# Altium footprint library 管子.PcbLib: 24 footprints (part 2 of 2)
Each footprint in its own frame and in the unit in brackets; x right, y up, seen from the top. Pads: shape width x height; smd on the part's side, far side on the other; paste and mask are expansions set on the pad; w line width, h text height; cw(c..) or ccw(c..) is an arc to the next point about the centre after c.
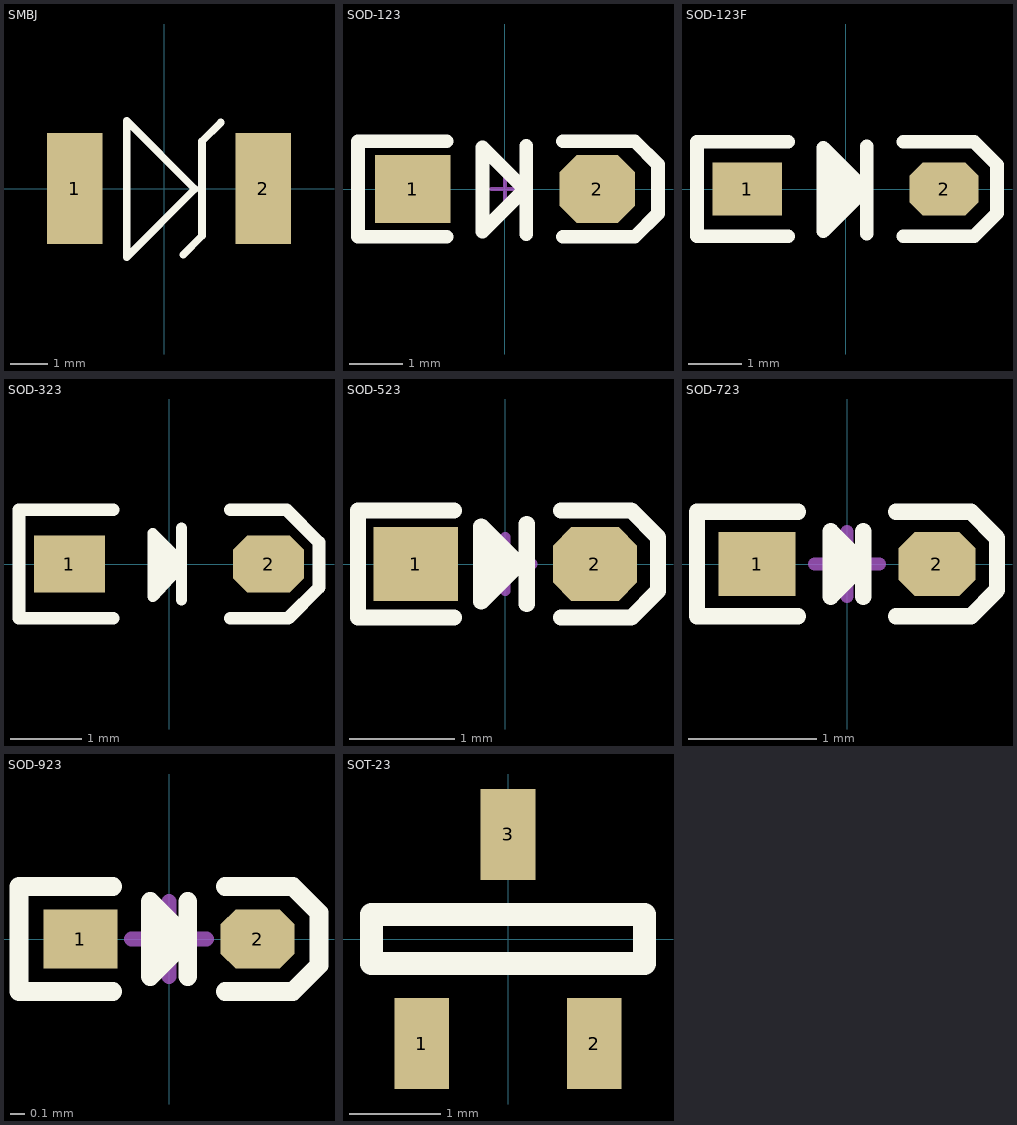
[diagram p1: the footprints below, top view; thin cyan lines are the x and y axes]

## SMBJ [mm]
pads (2):
  rect 1.5x3 smd: 1(-2.413,0) 2(2.667,0)
Top Overlay:
  lines w0.203: 0.508,-1.778 1.016,-1.27 1.016,1.27 1.524,1.778 ; -1.016,-1.854 0.826,-0.013 -1.016,1.829 -1.016,-1.854

## SOD-123 [mil] "2.7x1.6X1.1mm（长宽高，不包括引脚）"
pads (2):
  rect 55x50 smd: 1(-67.5,0)
  oct 55x50 smd: 2(67.5,0)
Top Overlay:
  lines w10: -42.5,-35 -107.5,-35 -107.5,35 -42.5,35 ; 14,-0.8 -16.4,-31.2 -16.4,30.5 15.6,-1.5 ; 15.6,-33.1 15.6,31.7 ; 42.5,-35 95,-35 112,-18 112,18 95,35 42.5,35
Mechanical 15:
  lines w3: -10,0 10,0 ; 0,-10 0,10
3D body "SOD-123.STEP": height 48.03, standoff 0, extent -72.84,-31.5 72.83,31.5

## SOD-123F [mm] "2.7x1.6X1.1mm（长宽高，不包括引脚）"
pads (2):
  rect 1.3x1 smd: 1(-1.85,0)
  oct 1.3x1 smd: 2(1.85,0)
Top Overlay:
  lines w0.254: -1.079,-0.889 -2.794,-0.889 -2.794,0.889 -1.079,0.889 ; -0.254,0.559 -0.229,-0.432 0.254,0 0,0.254 0,0 0,-0.254 ; 0.356,-0.02 -0.417,-0.792 -0.417,0.775 0.396,-0.038 ; 0.396,-0.841 0.396,0.805 ; 1.079,-0.889 2.413,-0.889 2.845,-0.457 2.845,0.457 2.413,0.889 1.079,0.889
Mechanical 15:
  lines w0.076: -0.254,0 0.254,0 ; 0,-0.254 0,0.254
3D body "SOD-123F.STEP": height 1.15, standoff 0.04, extent -1.9,-0.8 1.9,0.8

## SOD-323 [mm] "1.8x1.3X0.9mm（长宽高，不包括引脚）"
pads (2):
  rect 1x0.8 smd: 1(-1.4,0)
  oct 1x0.8 smd: 2(1.4,0)
Top Overlay:
  lines w0.152: 0.178,-0.508 0.178,0.508 ; 0.178,-0.025 -0.229,-0.457 -0.229,0.432 0.178,0.025
  lines w0.178: -0.787,-0.762 -2.108,-0.762 -2.108,0.762 -0.787,0.762 ; 0.864,-0.762 1.676,-0.762 2.108,-0.33 2.108,0.305 1.651,0.762 0.864,0.762
  lines w0.254: -0.127,0.254 -0.152,-0.178 0.025,-0.025 -0.025,0.127
Mechanical 15:
  lines w0.076: -0.229,0 0.178,0 ; 0,-0.254 0,0.254
3D body "SOD-323.STEP": height 1, standoff 0.04, extent -1.337,-0.631 1.311,0.669

## SOD-523 [mm] "1.2x0.8X0.6mm（长宽高，不包括引脚）"
pads (2):
  rect 0.8x0.7 smd: 1(-0.85,0)
  oct 0.8x0.7 smd: 2(0.85,0)
Top Overlay:
  rectangle: -0.178,-0.178 0,0.178
  lines w0.152: -0.488,-0.508 -1.397,-0.508 -1.397,0.508 -0.488,0.508 ; -0.127,0 0.127,0 ; 0.203,-0.381 0.203,0.381 ; 0.528,-0.508 1.194,-0.508 1.448,-0.254 1.448,0.254 1.194,0.508 0.528,0.508 ; 0.127,0 -0.229,-0.356 -0.229,0.356 0.127,0
Mechanical 15:
  lines w0.1: -0.254,0 0.254,0 ; 0,-0.254 0,0.254
3D body "SOD-523.STEP": height 0.65, standoff 0.05, extent -0.8,-0.4 0.8,0.4

## SOD-723 [mm] "1x0.6X0.5mm（长宽高，不包括引脚）"
pads (2):
  rect 0.6x0.5 smd: 1(-0.7,0)
  oct 0.6x0.5 smd: 2(0.7,0)
Top Overlay:
  lines w0.127: -0.381,-0.406 -1.168,-0.406 -1.168,0.406 -0.381,0.406 ; 0,-0.127 0,0.127 -0.127,0.254 ; 0.127,-0.254 0.127,0.254 ; 0.381,-0.406 0.965,-0.406 1.168,-0.203 1.168,0.203 0.965,0.406 0.381,0.406 ; -0.127,0.254 0.127,0 -0.127,-0.254 -0.127,0.254
Mechanical 15:
  lines w0.1: -0.254,0 0.254,0 ; 0,-0.254 0,0.254
3D body "SOD-723.STEP": height 0.53, standoff 0.03, extent -0.7,-0.3 0.7,0.3

## SOD-923 [mm] "0.8x0.6X0.4mm（长宽高，不包括引脚）"
pads (2):
  rect 0.5x0.4 smd: 1(-0.6,0)
  oct 0.5x0.4 smd: 2(0.6,0)
Top Overlay:
  lines w0.127: -0.381,-0.356 -1.016,-0.356 -1.016,0.356 -0.381,0.356 ; 0,-0.127 0,0.127 -0.127,0.254 ; 0.127,-0.254 0.127,0.254 ; 0.381,-0.356 0.838,-0.356 1.016,-0.178 1.016,0.178 0.838,0.356 0.381,0.356 ; -0.127,0.254 -0.127,-0.254 0.127,0 -0.127,0.254
Mechanical 15:
  lines w0.1: -0.254,0 0.254,0 ; 0,-0.254 0,0.254
3D body "SOD-923.STEP": height 0.43, standoff 0.03, extent -0.5,-0.3 0.5,0.3

## SOT-23 [mm] "SOT-23-3"
height 1.1
pads (3):
  rect 0.6x1 smd: 1(-0.95,-1.15) 2(0.95,-1.15) 3(0,1.15)
Top Overlay:
  lines w0.254: -1.5,-0.27 1.5,-0.27 1.5,0.27 -1.5,0.27 -1.5,-0.27
3D body "SOT-23-3.STEP": height 0.99, standoff 0.01, extent -1.46,-1.275 1.46,1.273